# Altium schematic symbol library IC_Microchip_ATMEGA328PB-AUR_eec.SchLib: 1 symbol
Pins are listed as number, name and electrical type; pins without a type are passive.

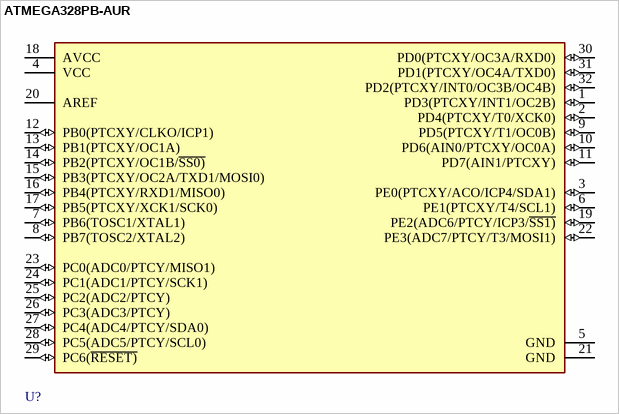
[diagram p0: symbol ATMEGA328PB-AUR]

## ATMEGA328PB-AUR
designator U?  (value not drawn)
footprint Microchip_C04-074_IPC_C
pins: 1 PD3(PTCXY/INT1/OC2B) (io), 2 PD4(PTCXY/T0/XCK0) (io), 3 PE0(PTCXY/ACO/ICP4/SDA1) (io), 4 VCC (power), 5 GND (power), 6 PE1(PTCXY/T4/SCL1) (io), 7 PB6(TOSC1/XTAL1) (io), 8 PB7(TOSC2/XTAL2) (io), 9 PD5(PTCXY/T1/OC0B) (io), 10 PD6(AIN0/PTCXY/OC0A) (io), 11 PD7(AIN1/PTCXY) (io), 12 PB0(PTCXY/CLKO/ICP1) (io), 13 PB1(PTCXY/OC1A) (io), 14 PB2(PTCXY/OC1B/~{SS0)} (io), 15 PB3(PTCXY/OC2A/TXD1/MOSI0) (io), 16 PB4(PTCXY/RXD1/MISO0) (io), 17 PB5(PTCXY/XCK1/SCK0) (io), 18 AVCC (power), 19 PE2(ADC6/PTCY/ICP3/~{SS1)} (io), 20 AREF (power), 21 GND (power), 22 PE3(ADC7/PTCY/T3/MOSI1) (io), 23 PC0(ADC0/PTCY/MISO1) (io), 24 PC1(ADC1/PTCY/SCK1) (io), 25 PC2(ADC2/PTCY) (io), 26 PC3(ADC3/PTCY) (io), 27 PC4(ADC4/PTCY/SDA0) (io), 28 PC5(ADC5/PTCY/SCL0) (io), 29 PC6(~{RESET)} (io), 30 PD0(PTCXY/OC3A/RXD0) (io), 31 PD1(PTCXY/OC4A/TXD0) (io), 32 PD2(PTCXY/INT0/OC3B/OC4B) (io)